# EAGLE library part MP1584 (library 1zac)
Step-Down Converter 3A 1.5MHz 28V
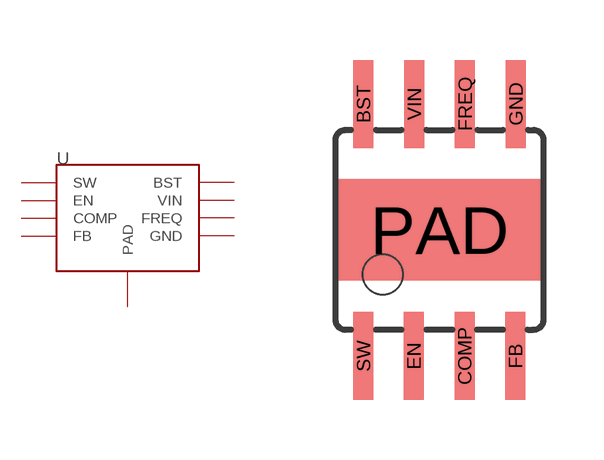
[diagram p1: symbol with the pads of SOIC8E; footprint SOIC8E]

Designator prefix -

## MP1584 (MPN: MP1584)  [SOIC8E]
BST  BST
COMP  COMP
EN  EN
FB  FB
FREQ  FREQ
GND  GND
PAD  PAD
SW  SW
VIN  VIN

## Footprint SOIC8E (pad centres in mm)
smd 0.5 x 2.2: BST -1.905,3.154; COMP 0.625,-3.154; EN -0.645,-3.154; FB 1.895,-3.154; FREQ 0.635,3.154; GND 1.905,3.154; SW -1.905,-3.154; VIN -0.635,3.154
smd 5.08 x 2.54: PAD 0,0